# EAGLE library part REALTEX-AMEBA-DEV01-SHIELD (library mbed-HDK-misc-Board)
Shield for Realtek AMEBA DEV01
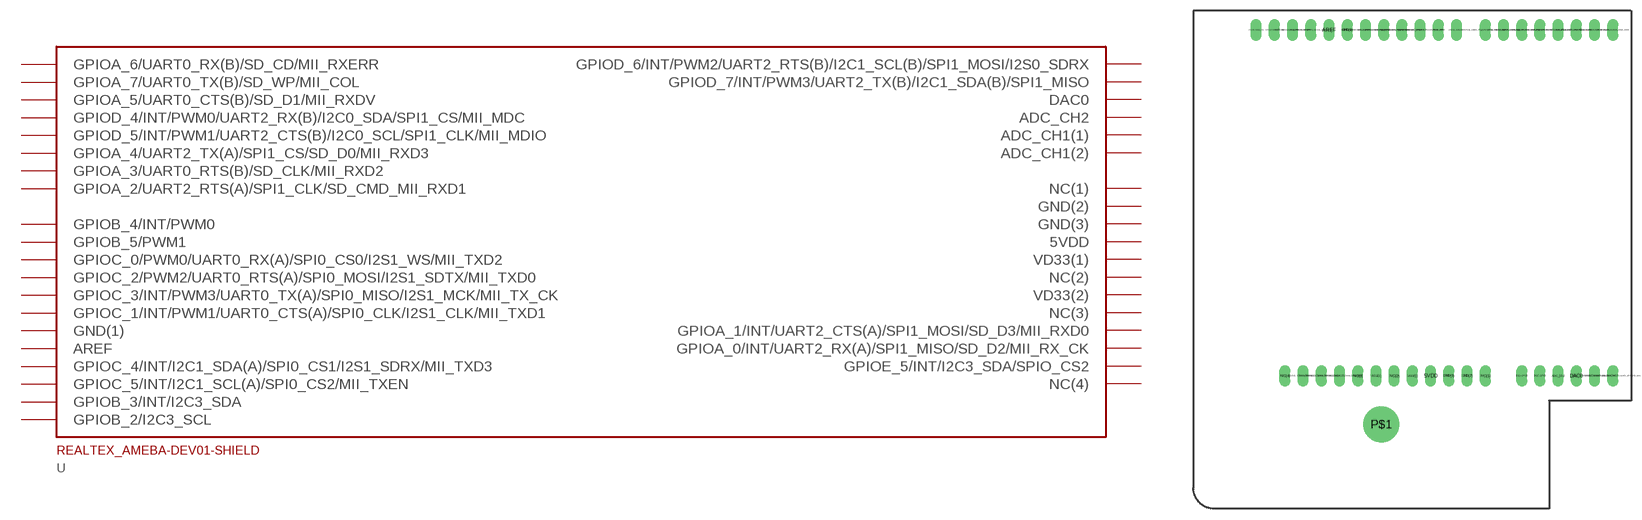
[diagram p2: symbol with the pads of REALTEK-AMEBA-DEV01-SHIELD; footprint REALTEK-AMEBA-DEV01-SHIELD]

Designator prefix -

## REALTEX-AMEBA-DEV01-SHIELD  [REALTEK-AMEBA-DEV01-SHIELD]
5VDD  5VDD
ADC_CH1(1)  ADC_CH1(1)
ADC_CH1(2)  ADC_CH1(2)
ADC_CH2  ADC_CH2
AREF  AREF
DAC0  DAC0
GND(1)  GND(1)
GND(2)  GND(2)
GND(3)  GND(3)
GPIOA_0/INT/UART2_RX(A)/SPI1_MISO/SD_D2/MII_RX_CK  GPIOA_0/INT/UART2_RX(A)/SPI1_MISO/SD_D2/MII_RX_CK
GPIOA_1/INT/UART2_CTS(A)/SPI1_MOSI/SD_D3/MII_RXD0  GPIOA_1/INT/UART2_CTS(A)/SPI1_MOSI/SD_D3/MII_RXD0
GPIOA_2/UART2_RTS(A)/SPI1_CLK/SD_CMD_MII_RXD1  GPIOA_2/UART2_RTS(A)/SPI1_CLK/SD_CMD_MII_RXD1
GPIOA_3/UART0_RTS(B)/SD_CLK/MII_RXD2  GPIOA_3/UART0_RTS(B)/SD_CLK/MII_RXD2
GPIOA_4/UART2_TX(A)/SPI1_CS/SD_D0/MII_RXD3  GPIOA_4/UART2_TX(A)/SPI1_CS/SD_D0/MII_RXD3
GPIOA_5/UART0_CTS(B)/SD_D1/MII_RXDV  GPIOA_5/UART0_CTS(B)/SD_D1/MII_RXDV
GPIOA_6/UART0_RX(B)/SD_CD/MII_RXERR  GPIOA_6/UART0_RX(B)/SD_CD/MII_RXERR
GPIOA_7/UART0_TX(B)/SD_WP/MII_COL  GPIOA_7/UART0_TX(B)/SD_WP/MII_COL
GPIOB_2/I2C3_SCL  GPIOB_2/I2C3_SCL
GPIOB_3/INT/I2C3_SDA  GPIOB_3/INT/I2C3_SDA
GPIOB_4/INT/PWM0  GPIOB_4/INT/PWM0
GPIOB_5/PWM1  GPIOB_5/PWM1
GPIOC_0/PWM0/UART0_RX(A)/SPI0_CS0/I2S1_WS/MII_TXD2  GPIOC_0/PWM0/UART0_RX(A)/SPI0_CS0/I2S1_WS/MII_TXD2
GPIOC_1/INT/PWM1/UART0_CTS(A)/SPI0_CLK/I2S1_CLK/MII_TXD1  GPIOC_1/INT/PWM1/UART0_CTS(A)/SPI0_CLK/I2S1_CLK/MII_TXD1
GPIOC_2/PWM2/UART0_RTS(A)/SPI0_MOSI/I2S1_SDTX/MII_TXD0  GPIOC_2/PWM2/UART0_RTS(A)/SPI0_MOSI/I2S1_SDTX/MII_TXD0
GPIOC_3/INT/PWM3/UART0_TX(A)/SPI0_MISO/I2S1_MCK/MII_TX_CK  GPIOC_3/INT/PWM3/UART0_TX(A)/SPI0_MISO/I2S1_MCK/MII_TX_CK
GPIOC_4/INT/I2C1_SDA(A)/SPI0_CS1/I2S1_SDRX/MII_TXD3  GPIOC_4/INT/I2C1_SDA(A)/SPI0_CS1/I2S1_SDRX/MII_TXD3
GPIOC_5/INT/I2C1_SCL(A)/SPI0_CS2/MII_TXEN  GPIOC_5/INT/I2C1_SCL(A)/SPI0_CS2/MII_TXEN
GPIOD_4/INT/PWM0/UART2_RX(B)/I2C0_SDA/SPI1_CS/MII_MDC  GPIOD_4/INT/PWM0/UART2_RX(B)/I2C0_SDA/SPI1_CS/MII_MDC
GPIOD_5/INT/PWM1/UART2_CTS(B)/I2C0_SCL/SPI1_CLK/MII_MDIO  GPIOD_5/INT/PWM1/UART2_CTS(B)/I2C0_SCL/SPI1_CLK/MII_MDIO
GPIOD_6/INT/PWM2/UART2_RTS(B)/I2C1_SCL(B)/SPI1_MOSI/I2S0_SDRX  GPIOD_6/INT/PWM2/UART2_RTS(B)/I2C1_SCL(B)/SPI1_MOSI/I2S0_SDRX
GPIOD_7/INT/PWM3/UART2_TX(B)/I2C1_SDA(B)/SPI1_MISO  GPIOD_7/INT/PWM3/UART2_TX(B)/I2C1_SDA(B)/SPI1_MISO
GPIOE_5/INT/I2C3_SDA/SPIO_CS2  GPIOE_5/INT/I2C3_SDA/SPIO_CS2
NC(1)  NC(1)
NC(2)  NC(2)
NC(3)  NC(3)
NC(4)  NC(4)
VD33(1)  VD33(1)
VD33(2)  VD33(2)

## Footprint REALTEK-AMEBA-DEV01-SHIELD (pad centres in mm)
drill 1 long: 5VDD 29.69,-51.01; ADC_CH1(1) 44.93,-51.01; ADC_CH1(2) 42.39,-51.01; ADC_CH2 47.47,-51.01; AREF 15.53,-2.75; DAC0 50.01,-51.01; GND(1) 18.07,-2.75; GND(2) 34.77,-51.01; GND(3) 32.23,-51.01; GPIOA_0/INT/UART2_RX(A)/SPI1_MISO/SD_D2/MII_RX_CK 14.45,-51.01; GPIOA_1/INT/UART2_CTS(A)/SPI1_MOSI/SD_D3/MII_RXD0 16.99,-51.01; GPIOA_2/UART2_RTS(A)/SPI1_CLK/SD_CMD_MII_RXD1 37.31,-2.75; GPIOA_3/UART0_RTS(B)/SD_CLK/MII_RXD2 39.85,-2.75; GPIOA_4/UART2_TX(A)/SPI1_CS/SD_D0/MII_RXD3 42.39,-2.75; GPIOA_5/UART0_CTS(B)/SD_D1/MII_RXDV 50.01,-2.75; GPIOA_6/UART0_RX(B)/SD_CD/MII_RXERR 55.09,-2.75; GPIOA_7/UART0_TX(B)/SD_WP/MII_COL 52.55,-2.75; GPIOB_2/I2C3_SCL 5.37,-2.75; GPIOB_3/INT/I2C3_SDA 7.91,-2.75; GPIOB_4/INT/PWM0 33.31,-2.75; GPIOB_5/PWM1 30.77,-2.75; GPIOC_0/PWM0/UART0_RX(A)/SPI0_CS0/I2S1_WS/MII_TXD2 28.23,-2.75; GPIOC_1/INT/PWM1/UART0_CTS(A)/SPI0_CLK/I2S1_CLK/MII_TXD1 20.61,-2.75; GPIOC_2/PWM2/UART0_RTS(A)/SPI0_MOSI/I2S1_SDTX/MII_TXD0 25.69,-2.75; GPIOC_3/INT/PWM3/UART0_TX(A)/SPI0_MISO/I2S1_MCK/MII_TX_CK 23.15,-2.75; GPIOC_4/INT/I2C1_SDA(A)/SPI0_CS1/I2S1_SDRX/MII_TXD3 12.99,-2.75; GPIOC_5/INT/I2C1_SCL(A)/SPI0_CS2/MII_TXEN 10.45,-2.75; GPIOD_4/INT/PWM0/UART2_RX(B)/I2C0_SDA/SPI1_CS/MII_MDC 47.47,-2.75; GPIOD_5/INT/PWM1/UART2_CTS(B)/I2C0_SCL/SPI1_CLK/MII_MDIO 44.93,-2.75; GPIOD_6/INT/PWM2/UART2_RTS(B)/I2C1_SCL(B)/SPI1_MOSI/I2S0_SDRX 55.09,-51.01; GPIOD_7/INT/PWM3/UART2_TX(B)/I2C1_SDA(B)/SPI1_MISO 52.55,-51.01; GPIOE_5/INT/I2C3_SDA/SPIO_CS2 11.91,-51.01; NC(1) 37.31,-51.01; NC(2) 24.61,-51.01; NC(3) 19.53,-51.01; NC(4) 9.37,-51.01; VD33(1) 27.15,-51.01; VD33(2) 22.07,-51.01
drill 3 pad 5: P$1 22.8,-57.75